# EAGLE library part LM386 (library lbm)
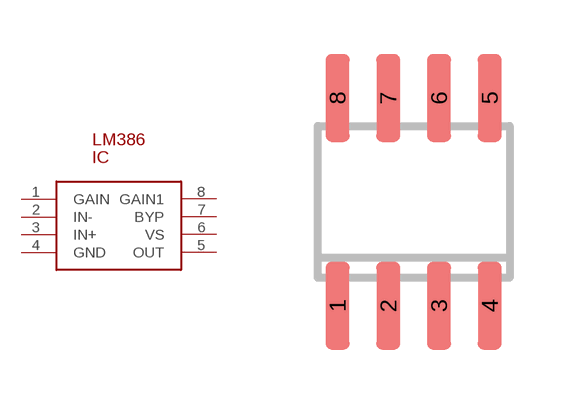
[diagram p42: symbol with the pads of SO8; footprint SO8]

Designator prefix IC

## LM386  [SO8]
1  GAIN  pas
2  IN-  pas
3  IN+  pas
4  GND  pas
5  OUT  pas
6  VS  pas
7  BYP  pas
8  GAIN1  pas

## Footprint SO8 (pad centres in mm)
smd 0.6 x 2.2: 1 -1.905,-2.6; 2 -0.635,-2.6; 3 0.635,-2.6; 4 1.905,-2.6; 5 1.905,2.6; 6 0.635,2.6; 7 -0.635,2.6; 8 -1.905,2.6